# Altium footprint library XRNR201610.PcbLib: 1 footprints
Each footprint in its own frame and in the unit in brackets; x right, y up, seen from the top. Pads: shape width x height; smd on the part's side, far side on the other; paste and mask are expansions set on the pad; w line width, h text height; cw(c..) or ccw(c..) is an arc to the next point about the centre after c.
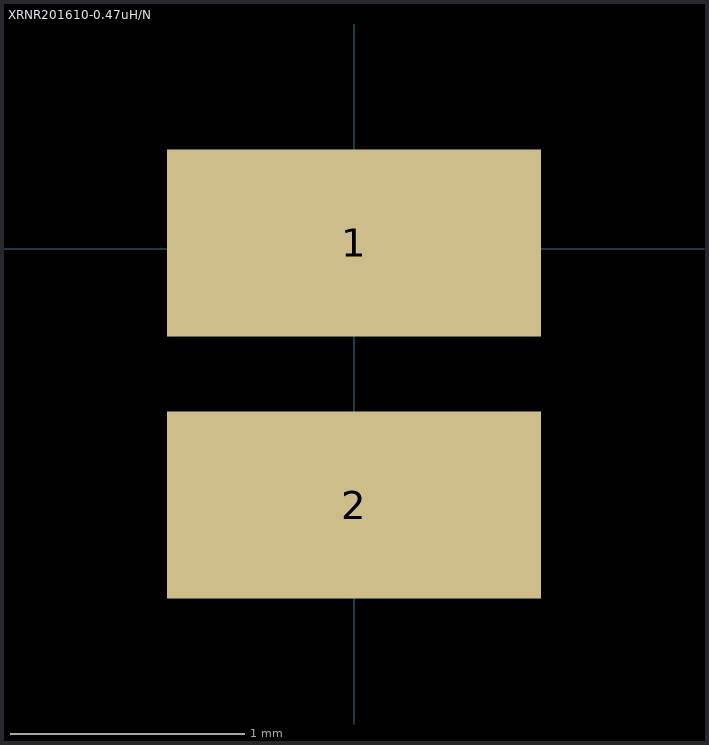
[diagram p0: the footprint, top view; thin cyan lines are the x and y axes]

## XRNR201610-0.47uH/N [mm] "Inductor"
pads (2):
  rect 1.6x0.8 smd: 1(0,0.025) 2(0,-1.095)
3D body: height 1.05, standoff 0, extent -0.8,-1.525 0.8,0.475